# EAGLE library part MCU_LPC824 (library akita)
NXP LPC824
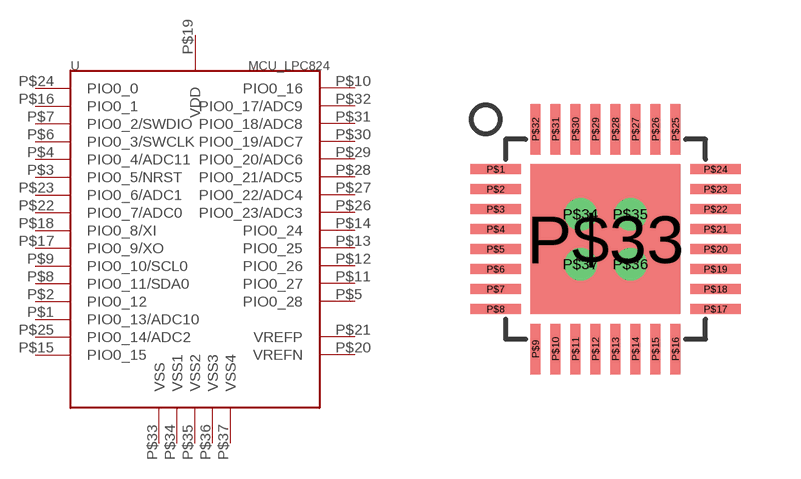
[diagram p71: symbol with the pads of QFN32E; footprint QFN32E]

Designator prefix -

## MCU_LPC824QFN  [QFN32E]
P$1  PIO0_13/ADC10
P$2  PIO0_12
P$3  PIO0_5/NRST
P$4  PIO0_4/ADC11
P$5  PIO0_28
P$6  PIO0_3/SWCLK
P$7  PIO0_2/SWDIO
P$8  PIO0_11/SDA0
P$9  PIO0_10/SCL0
P$10  PIO0_16
P$11  PIO0_27
P$12  PIO0_26
P$13  PIO0_25
P$14  PIO0_24
P$15  PIO0_15
P$16  PIO0_1
P$17  PIO0_9/XO
P$18  PIO0_8/XI
P$19  VDD
P$20  VREFN
P$21  VREFP
P$22  PIO0_7/ADC0
P$23  PIO0_6/ADC1
P$24  PIO0_0
P$25  PIO0_14/ADC2
P$26  PIO0_23/ADC3
P$27  PIO0_22/ADC4
P$28  PIO0_21/ADC5
P$29  PIO0_20/ADC6
P$30  PIO0_19/ADC7
P$31  PIO0_18/ADC8
P$32  PIO0_17/ADC9
P$33  VSS
P$34  VSS1
P$35  VSS2
P$36  VSS3
P$37  VSS4

## Footprint QFN32E (pad centres in mm)
QFN32 w/ Exposed Pad
smd 1.27 x 0.25: P$1 -2.75,1.75; P$2 -2.75,1.25; P$3 -2.75,0.75; P$4 -2.75,0.25; P$5 -2.75,-0.25; P$6 -2.75,-0.75; P$7 -2.75,-1.25; P$8 -2.75,-1.75; P$17 2.75,-1.75; P$18 2.75,-1.25; P$19 2.75,-0.75; P$20 2.75,-0.25; P$21 2.75,0.25; P$22 2.75,0.75; P$23 2.75,1.25; P$24 2.75,1.75
smd 0.25 x 1.27: P$9 -1.75,-2.75; P$10 -1.25,-2.75; P$11 -0.75,-2.75; P$12 -0.25,-2.75; P$13 0.25,-2.75; P$14 0.75,-2.75; P$15 1.25,-2.75; P$16 1.75,-2.75; P$25 1.75,2.75; P$26 1.25,2.75; P$27 0.75,2.75; P$28 0.25,2.75; P$29 -0.25,2.75; P$30 -0.75,2.75; P$31 -1.25,2.75; P$32 -1.75,2.75
smd 3.75 x 3.75: P$33 0,0
drill 0.3 pad 0.6: P$34 -0.625,0.625; P$35 0.625,0.625; P$36 0.625,-0.625; P$37 -0.625,-0.625